# Altium footprint library IRF3710PBF-ND.PcbLib: 1 footprints
Each footprint in its own frame and in the unit in brackets; x right, y up, seen from the top. Pads: shape width x height; smd on the part's side, far side on the other; paste and mask are expansions set on the pad; w line width, h text height; cw(c..) or ccw(c..) is an arc to the next point about the centre after c.
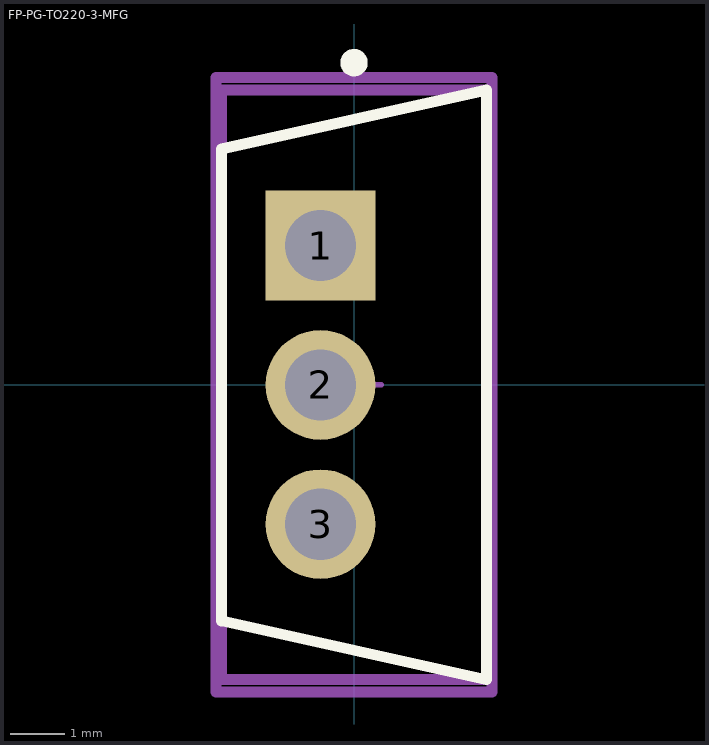
[diagram p0: the footprint, top view; thin cyan lines are the x and y axes]

## FP-PG-TO220-3-MFG [mm]
pads (3):
  rect 2x2 hole 1.3 paste-2539.97 mask+0: 1(-0.61,2.54)
  round 2 hole 1.3 paste-2539.97 mask+0: 2(-0.61,0) 3(-0.61,-2.54)
Top Overlay:
  circle w0.25: c0,5.875 r0.125
  lines w0.2: 2.415,-5.375 -2.415,-4.3 -2.415,4.3 2.415,5.375 ; 2.415,-5.325 2.415,5.325
Top Assembly:
  lines w0.2: -2.515,-5.602 -2.515,5.602 2.515,5.602 2.515,-5.602 -2.515,-5.602
  text ".Designator" at 0,-0.001 h1
Top 3D Body:
  lines w0.2: -2.415,-5.375 -2.415,5.375 2.415,5.375 2.415,-5.375 -2.415,-5.375
Top Courtyard:
  lines w0.2: -2.515,-5.602 -2.515,5.602 2.515,5.602 2.515,-5.602 -2.515,-5.602
Top Component Center:
  lines w0.1: -0.5,0 0.5,0 ; 0,-0.5 0,0.5
3D body "Trans_Infineon_IRF3710PBF_eec.STEP": height 0.25, standoff 0, extent -2.515,-5.602 2.515,5.602